# Altium schematic symbol library THU_VIEN_1.SchLib: 78 symbols
Pins are listed as number, name and electrical type; pins without a type are passive.

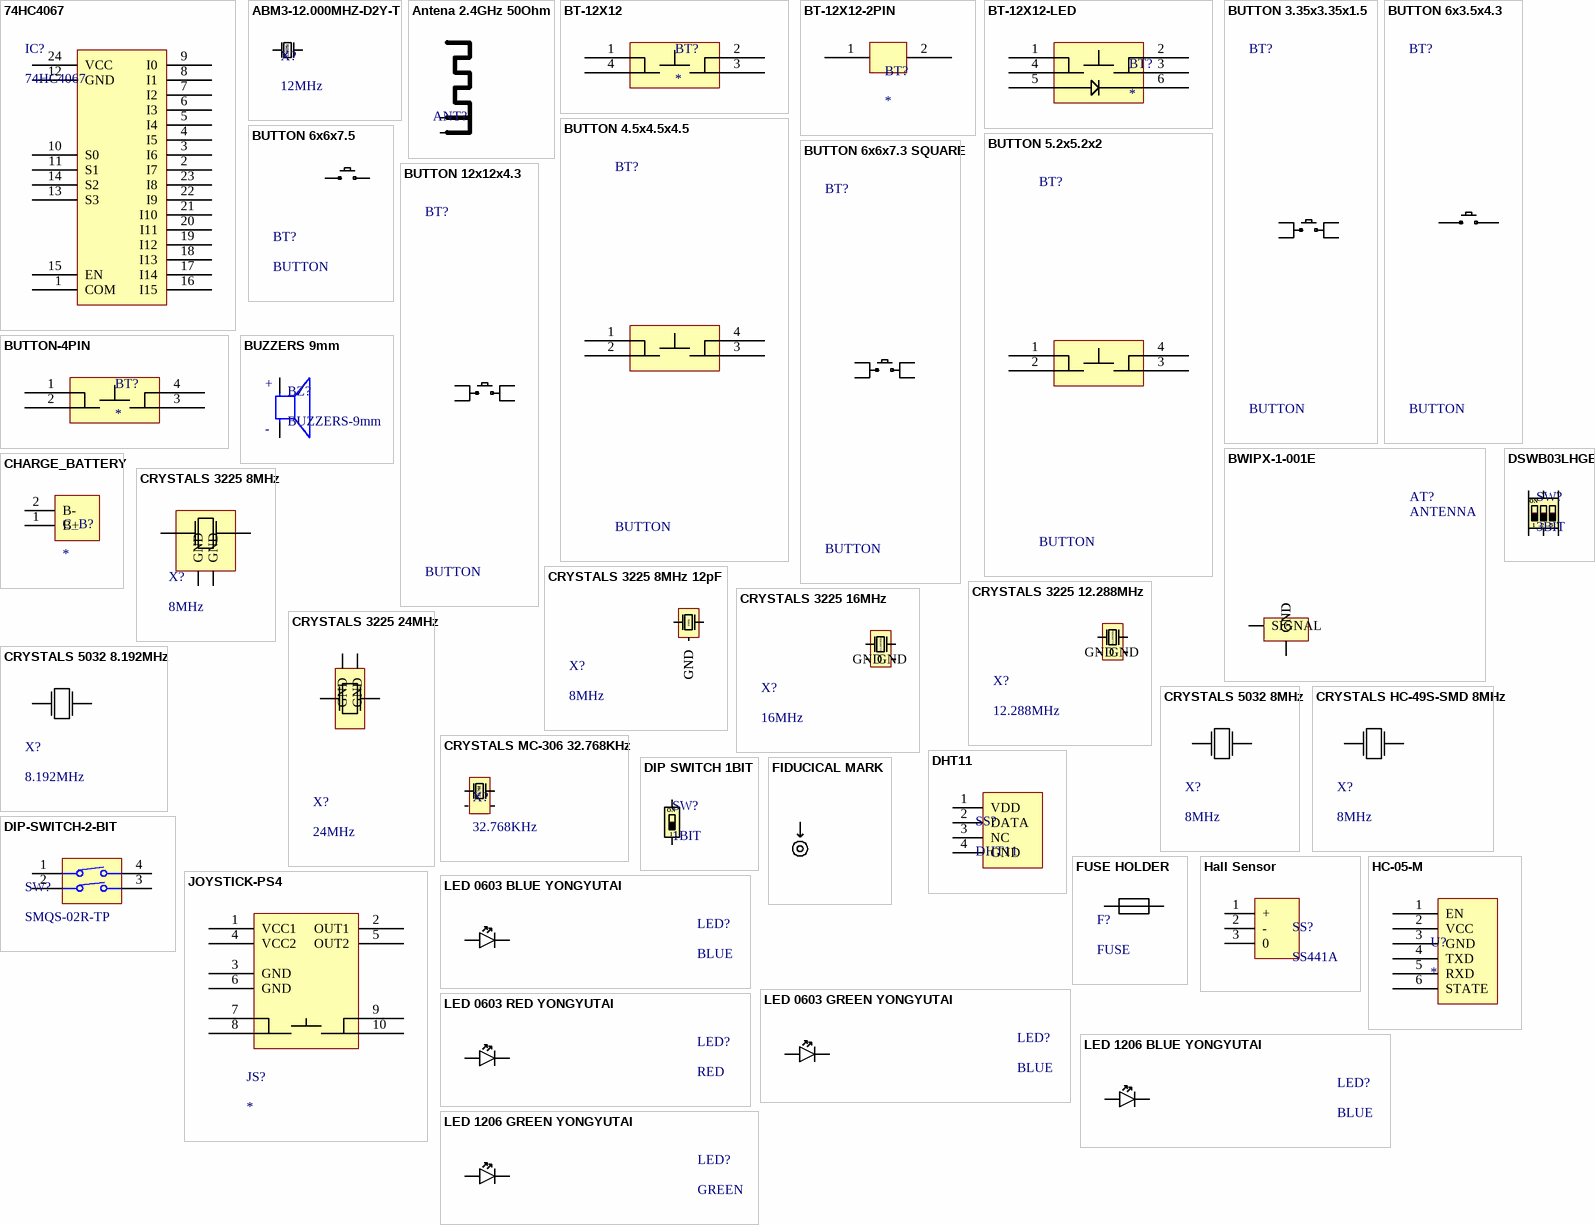
[diagram p0: symbols 74HC4067 to LED 1206 GREEN YONGYUTAI]

## 74HC4067
designator IC?
SSOP-24-208mil Analog Switches / Multiplexers ROHS; Manufacturer: Nexperia; Mfr.Part #: 74HC4067DB,118; So_Chan_Dan: 24; So_Chan_Cam: 0; Package: SSOP-24-208mil; Name: 74HC4067
footprint SSOP-24-208mil
pins: 1 COM, 2 I7, 3 I6, 4 I5, 5 I4, 6 I3, 7 I2, 8 I1, 9 I0, 10 S0, 11 S1, 12 GND, 13 S3, 14 S2, 15 EN, 16 I15, 17 I14, 18 I13, 19 I12, 20 I11, 21 I10, 22 I9, 23 I8, 24 VCC

## ABM3-12.000MHZ-D2Y-T
designator X?, comment 12MHz
SMD5032 Crystals ROHS; Manufacturer: Abracon LLC; Mfr.Part #: ABM3-12.000MHZ-D2Y-T; Package: SMD5032; LCSC Part #: C148313
footprint SMD3215
pins: 1, 2

## Antena 2.4GHz 50Ohm
designator ANT?  (value not drawn)
footprint ANTENNA 2.4GHz
pins: 1 GND, 2

## BT-12X12
designator BT?
footprint BUTTON-12X12
pins: 1 11, 2 13, 3 14, 4 12

## BT-12X12-2PIN
designator BT?
footprint BUTTON-12X12-2PIN
pins: 1 14, 2 15

## BT-12X12-LED
designator BT?
footprint BUTTON-12x12-LED
pins: 1 11, 2 13, 3 14, 4 12, 5, 6

## BUTTON 3.35x3.35x1.5
designator BT?, comment BUTTON
3.35mm 1.5mm 50mA Round Button Brick nogging 3.35mm 180gf 12V SMD Tactile Switches ROHS; Manufacturer: BZCN; Mfr.Part #: TSA007A1518B03; Name: BUTTON 3.35x3.35x1.5; So_Chan_Dan: 4; So_Chan_Cam: 0; Package: SMD
footprint BUTTON-3X3X1.5-4PIN
pins: 1, 2, 3, 4

## BUTTON 4.5x4.5x4.5
designator BT?, comment BUTTON
4.5mm 4.5mm Round Button 50mA Brick nogging 4.5mm SPST 12V SMD,4.5x4.5mm Tactile Switches ROHS; Manufacturer: XUNPU; Mfr.Part #: TS-1009S-04526; Name: BUTTON 4.5x4.5x4.5; So_Chan_Dan: 4; So_Chan_Cam: 0; Package: SMD,4.5x4.5mm
footprint SMD,4.5x4.5mm
pins: 1 11, 2 12, 3 14, 4 13

## BUTTON 5.2x5.2x2
designator BT?, comment BUTTON
5.2mm 2mm 50mA Round Button Brick nogging 5.2mm 12V SMD Tactile Switches ROHS; Manufacturer: BZCN; Mfr.Part #: TSC005A2026B; Name: BUTTON 5.2x5.2x2; So_Chan_Dan: 4; So_Chan_Cam: 0; Package: SMD
pins: 1 11, 2 12, 3 14, 4 13

## BUTTON 6x3.5x4.3
designator BT?, comment BUTTON
None Without 50mA 6mm 100MΩ 50,000 times 12V 260gf 3.5mm 4.3mm Round Button Standing paste SPST SMD Tactile Switches ROHS; Manufacturer: HCTL; Mfr.Part #: TC-3602-4.3-260G; Name: BUTTON 6x3.5x4.3; So_Chan_Dan: 2; So_Chan_Cam: 0; Package: BUTTON-6X3.5x4.3-2PIN
footprint BUTTON-6X3.5x4.3-2PIN
pins: 1, 2

## BUTTON 6x6x7.3 SQUARE
designator BT?, comment BUTTON
6mm 7.3mm Rectangle button 50mA Standing paste 6mm SPST 12V SMD,6x6mm Tactile Switches ROHS; Manufacturer: XUNPU; Mfr.Part #: TS-1002ST-26C; Name: BUTTON 6x6x7.3 SQUARE; So_Chan_Dan: 4; So_Chan_Cam: 0; Package: SMD,6x6mm
footprint BUTTON-6x6x7.3-4PIN-SQUARE
pins: 1, 2, 3, 4

## BUTTON 6x6x7.5
designator BT?, comment BUTTON
带支架 6mm 7.5mm 50mA Lying 6mm 100MΩ 100,000 Times 250gf 12V Plugin Tactile Switches ROHS; Manufacturer: Korean Hroparts Elec; Mfr.Part #: K2-1102AQ-H4CW-01; So_Chan_Cam: 4; So_Chan_Dan: 0; Package: Plugin; Name: Tactile Switches
footprint Plugin, Button
pins: 1, 2

## BUTTON 12x12x4.3
designator BT?, comment BUTTON
12mm 4.3mm 50mA Round Button Standing paste 12mm SPST 100MΩ 250gf 12V SMD,12x12mm Tactile Switches ROHS; Manufacturer: Hanbo Electronic; Mfr.Part #: TS-1103S; Name: BUTTON 12x12x4.3; So_Chan_Dan: 0; So_Chan_Cam: 4; Package: SMD,12x12mm
footprint SMD,12x12mm
pins: 1 11, 2 12, 3 14, 4 13

## BUTTON-4PIN
designator BT?
footprint BUTTON-3X3X1.5-4PIN
footprint BUTTON-6.2X6.2 (SMD)
footprint BUTTON-12X12
pins: 1 11, 2 12, 3 14, 4 13

## BUZZERS 9mm
designator BZ?, comment BUZZERS-9mm
85dB Externally Driven Magnetic 2.7kHz Plugin,D=9mm Buzzers ROHS; Manufacturer: Jiangsu Huaneng Elec; Mfr.Part #: QMB-09B-03; Name: BUZZER-9mm; So_Chan_Cam: 2; So_Chan_Dan: 0; Package: Plugin,D=9mm
footprint Plugin,D=9mm
pins: 1, 2
text: +; -

## BWIPX-1-001E
designator AT?, comment ANTENNA
1 Inner pin IPEX Board-End 6GHz 50Ω SMD Coaxial Connectors (RF) ROHS; Manufacturer: BAT WIRELESS; Mfr.Part #: BWIPX-1-001E; So_Chan_Dan: 4; So_Chan_Cam: 0; Package: SMD; Name: BWIPX-1-001E
footprint IPEX-SMD
pins: 1 SIGNAL, 2 GND, 3 GND, 4 GND

## CHARGE_BATTERY
designator C_B?
footprint CHARGE_BATTERY
pins: 1 B+, 2 B-

## CRYSTALS 3225 8MHz
designator X?, comment 8MHz
8MHz 20pF ±10ppm ±30ppm SMD3225-4P Crystals ROHS; Manufacturer: Huiyuan crystal; Mfr.Part #: HY8MSMD3225OB1R30; Name: CRYSTALS 3225 8MHz; So_Chan_Dan: 4; So_Chan_Cam: 0; Package: SMD3225-4P
footprint SMD3225-4P
pins: 1, 2 GND, 3, 4 GND

## CRYSTALS 3225 8MHz 12pF
designator X?, comment 8MHz
8MHz Surface Mount Crystal 12pF ±10ppm ±30ppm SMD3225-4P Crystals ROHS; Manufacturer: huaxindianzi; Mfr.Part #: 3X008000BP; Name: CRYSTALS 3225 8MHz 12pF; So_Chan_Dan: 4; So_Chan_Cam: 0; Package: SMD3225-4P
footprint SMD3225-4P
pins: 1, 2 GND, 3, 4 GND

## CRYSTALS 3225 12.288MHz
designator X?, comment 12.288MHz
12.288MHz Surface Mount Crystal 12pF ±10ppm ±20ppm SMD3225-4P Crystals ROHS; Manufacturer: Yajingxin; Mfr.Part #: TXM12.288M0004322FBCDO00T; Name: CRYSTALS 3225 12.288MHz; So_Chan_Dan: 4; So_Chan_Cam: 0; Package: SMD3225-4P
footprint SMD3225-4P
pins: 1, 2 GND, 3, 4 GND

## CRYSTALS 3225 16MHz
designator X?, comment 16MHz
16MHz 20pF ±10ppm SMD3225-4P Crystals ROHS; Manufacturer: Huiyuan crystal; Mfr.Part #: HY16MSMD3225OB1R30; Name: CRYSTALS 3225 16MHz; So_Chan_Dan: 4; So_Chan_Cam: 0; Package: SMD3225-4P
footprint SMD3225-4P
pins: 1, 2 GND, 3, 4 GND
text: 12.288MHz

## CRYSTALS 3225 24MHz
designator X?, comment 24MHz
24MHz Surface Mount Crystal 20pF ±20ppm ±20ppm SMD3225-4P Crystals ROHS; Manufacturer: TAITIEN Elec; Mfr.Part #: XXHCCLNANF-24MHZ; Name: CRYSTALS 3225 24MHz; So_Chan_Dan: 4; So_Chan_Cam: 0; Package: SMD3225-4P
footprint SMD3225-4P
pins: 1, 2 GND, 3, 4 GND

## CRYSTALS 5032 8.192MHz
designator X?, comment 8.192MHz
12pF 8.192MHz ±50ppm ±30ppm Surface Mount Crystal SMD5032 Crystals ROHS; Manufacturer: HCI; Mfr.Part #: XC53G2-8.192-F12JGDTL; Name: CRYSTALS 5032 8.192MHz; So_Chan_Dan: 2; So_Chan_Cam: 0; Package: SMD5032
footprint SMD5032
pins: 1, 2

## CRYSTALS 5032 8MHz
designator X?, comment 8MHz
8MHz 20pF ±10ppm SMD5032 Crystals ROHS; Manufacturer: SST; Mfr.Part #: S50328M20PF20PPMB; Name: CRYSTALS 5032 8MHz; So_Chan_Dan: 2; So_Chan_Cam: 0; Package: SMD5032
footprint SMD5032
pins: 1, 2

## CRYSTALS HC-49S-SMD 8MHz
designator X?, comment 8MHz
8MHz 20pF ±20ppm ±50ppm HC-49S-SMD Crystals ROHS; Manufacturer: Huiyuan crystal; Mfr.Part #: HY8M49SSMDOB2R20; Name: CRYSTALS HC-49S-SMD 8MHz; So_Chan_Dan: 2; So_Chan_Cam: 0; Package: HC-49S-SMD
footprint HC-49S-SMD
pins: 1, 2

## CRYSTALS MC-306 32.768KHz
designator X?, comment 32.768KHz
32.768kHz Surface Mount Crystal 12.5pF ±20ppm MC-306 Crystals ROHS; Manufacturer: Seiko Epson; Mfr.Part #: Q13MC30610003; Name: CRYSTALS MC-306 32.768KHz; So_Chan_Dan: 4; So_Chan_Cam: 0; Package: MC-306
footprint MC-306
pins: 1, 2, 3, 4
text: 32.768

## DHT11
designator SS?
SIP-4 Temperature and Humidity Sensor ROHS; MF: Panasonic Industrial Automation Sales; MP: DHT11; Package: None; SnapEDA_Link: https://www.snapeda.com/parts/DHT11/Panasonic/view-part/6618018/?ref=snap; Check_prices: https://www.snapeda.com/parts/DHT11/Panasonic/view-part/6618018/?ref=eda; Availability: In Stock; Value: *; Price: None; Purchase-URL: https://pricing.snapeda.com/search/part/DHT11/?ref=eda
footprint SIP-4
pins: 1 VDD, 2 DATA, 3 NC, 4 GND

## DIP SWITCH 1BIT
designator SW?, comment 1BIT
1 Digit SPST Red Flat Toggle, Raised Style Plugin,9.9x4mm DIP Switches ROHS; Manufacturer: DongGuan KINGTEK Industrial Co.,LTD; Mfr.Part #: DSWB01LHGET; Name: DIP SWITCH 1BIT; So_Chan_Dan: 0; So_Chan_Cam: 2; Package: Plugin
footprint DIP SWITCH 1BIT
pins: 1, 2
text: ON

## DIP-SWITCH-2-BIT
designator SW?, comment SMQS-02R-TP
2Bit Red 5千次 Slide (Standard),凸起式 - DIP Switches ROHS; MF: Wurth Electronics; MP: 418117270902; SnapEDA_Link: https://www.snapeda.com/parts/418117270902/Wurth+Electronics+Inc./view-part/?ref=snap; Package: None; Value: *; Check_prices: https://www.snapeda.com/parts/418117270902/Wurth+Electronics+Inc./view-part/?ref=eda
footprint DIP-SWITCH-2-BIT
pins: 1, 2, 3, 4

## DSWB03LHGET
designator SW?, comment 3BIT
3 SPST Red Slide, Rocked Through Hole DIP Switches ROHS; Manufacturer: YE; Mfr.Part #: DSWB03LHGET; Package: Through Hole; LCSC Part #: C99420
footprint DIP SWITCH 3BIT
pins: 1, 2, 3, 4, 5, 6
text: ON

## FIDUCICAL MARK
designator Mark?
Fiducial mark
footprint Fiducial mark

## FUSE HOLDER
designator F?, comment FUSE
SMD,5.0x9.7mm Fuse Holders ROHS; Manufacturer: Littelfuse; Mfr.Part #: 01550900M; So_Chan_Dan: 2; So_Chan_Cam: 0; Package: SMD,5.0x9.7mm; Name: FUSE HOLDER
footprint SMD,5.0x9.7mm
pins: 1, 2

## Hall Sensor
designator SS?, comment SS441A
115Gs 20Gs TO-92S Hall Sensor ROHS
footprint TO-92S
pins: 1 +, 2 -, 3 0

## HC-05-M
designator U?
pins: 1 EN, 2 VCC, 3 GND, 4 TXD, 5 RXD, 6 STATE

## JOYSTICK-PS4
designator JS?
footprint JOYTICK-PS4
footprint JOYTICK-PS4
pins: 1 VCC1, 2 OUT1, 3 GND, 4 VCC2, 5 OUT2, 6 GND, 7 BT1, 8 BT2, 9 BT3, 10 BT4

## LED 0603 BLUE YONGYUTAI
designator LED?, comment BLUE
30mA -40℃~+85℃ 460nm~475nm Blue 120° 2.6V~3.2V 0603 Light Emitting Diodes (LED) ROHS; Manufacturer: YONGYUTAI; Mfr.Part #: YLED0603B; Name: LED 0603 BLUE; So_Chan_Dan: 2; So_Chan_Cam: 0; Package: 0603
footprint LED-0603
pins: 1 A, 2 K

## LED 0603 GREEN YONGYUTAI
designator LED?, comment BLUE
Emerald 2.7V~3.2V 25mA -40℃~+85℃ 510nm~531nm 0603 LED Indication - Discrete ROHS; Manufacturer: YONGYUTAI; Mfr.Part #: YLED0603G; Name: LED 0603 GREEN YONGYUTAI; So_Chan_Dan: 2; So_Chan_Cam: 0; Package: 0603
footprint LED-0603
pins: 1 A, 2 K

## LED 0603 RED YONGYUTAI
designator LED?, comment RED
Red 25mA 620nm~625nm 1.8V~2.4V -40℃~+85℃ 0603 Light Emitting Diodes (LED) ROHS; Manufacturer: YONGYUTAI; Mfr.Part #: YLED0603R; So_Chan_Cam: 0; So_Chan_Dan: 2; Name: LED 0603 RED YONGYUTAI; Package: 0603
footprint LED-0603
pins: 1 A, 2 K

## LED 1206 BLUE YONGYUTAI
designator LED?, comment BLUE
1206 LED Indication - Discrete ROHS; Manufacturer: YONGYUTAI; Mfr.Part #: YLED1206B; So_Chan_Cam: 0; So_Chan_Dan: 2; Name: LED 1206 BLUE YONGYUTAI; Package: 1206
footprint LED-BLUE-1206
pins: 1 A, 2 K

## LED 1206 GREEN YONGYUTAI
designator LED?, comment GREEN
1206 LED Indication - Discrete ROHS; Manufacturer: YONGYUTAI; Mfr.Part #: YLED1206G; So_Chan_Cam: 0; So_Chan_Dan: 2; Package: 1206; Name: YLED1206G
footprint LED-GREEN-1206
pins: 1 A, 2 K

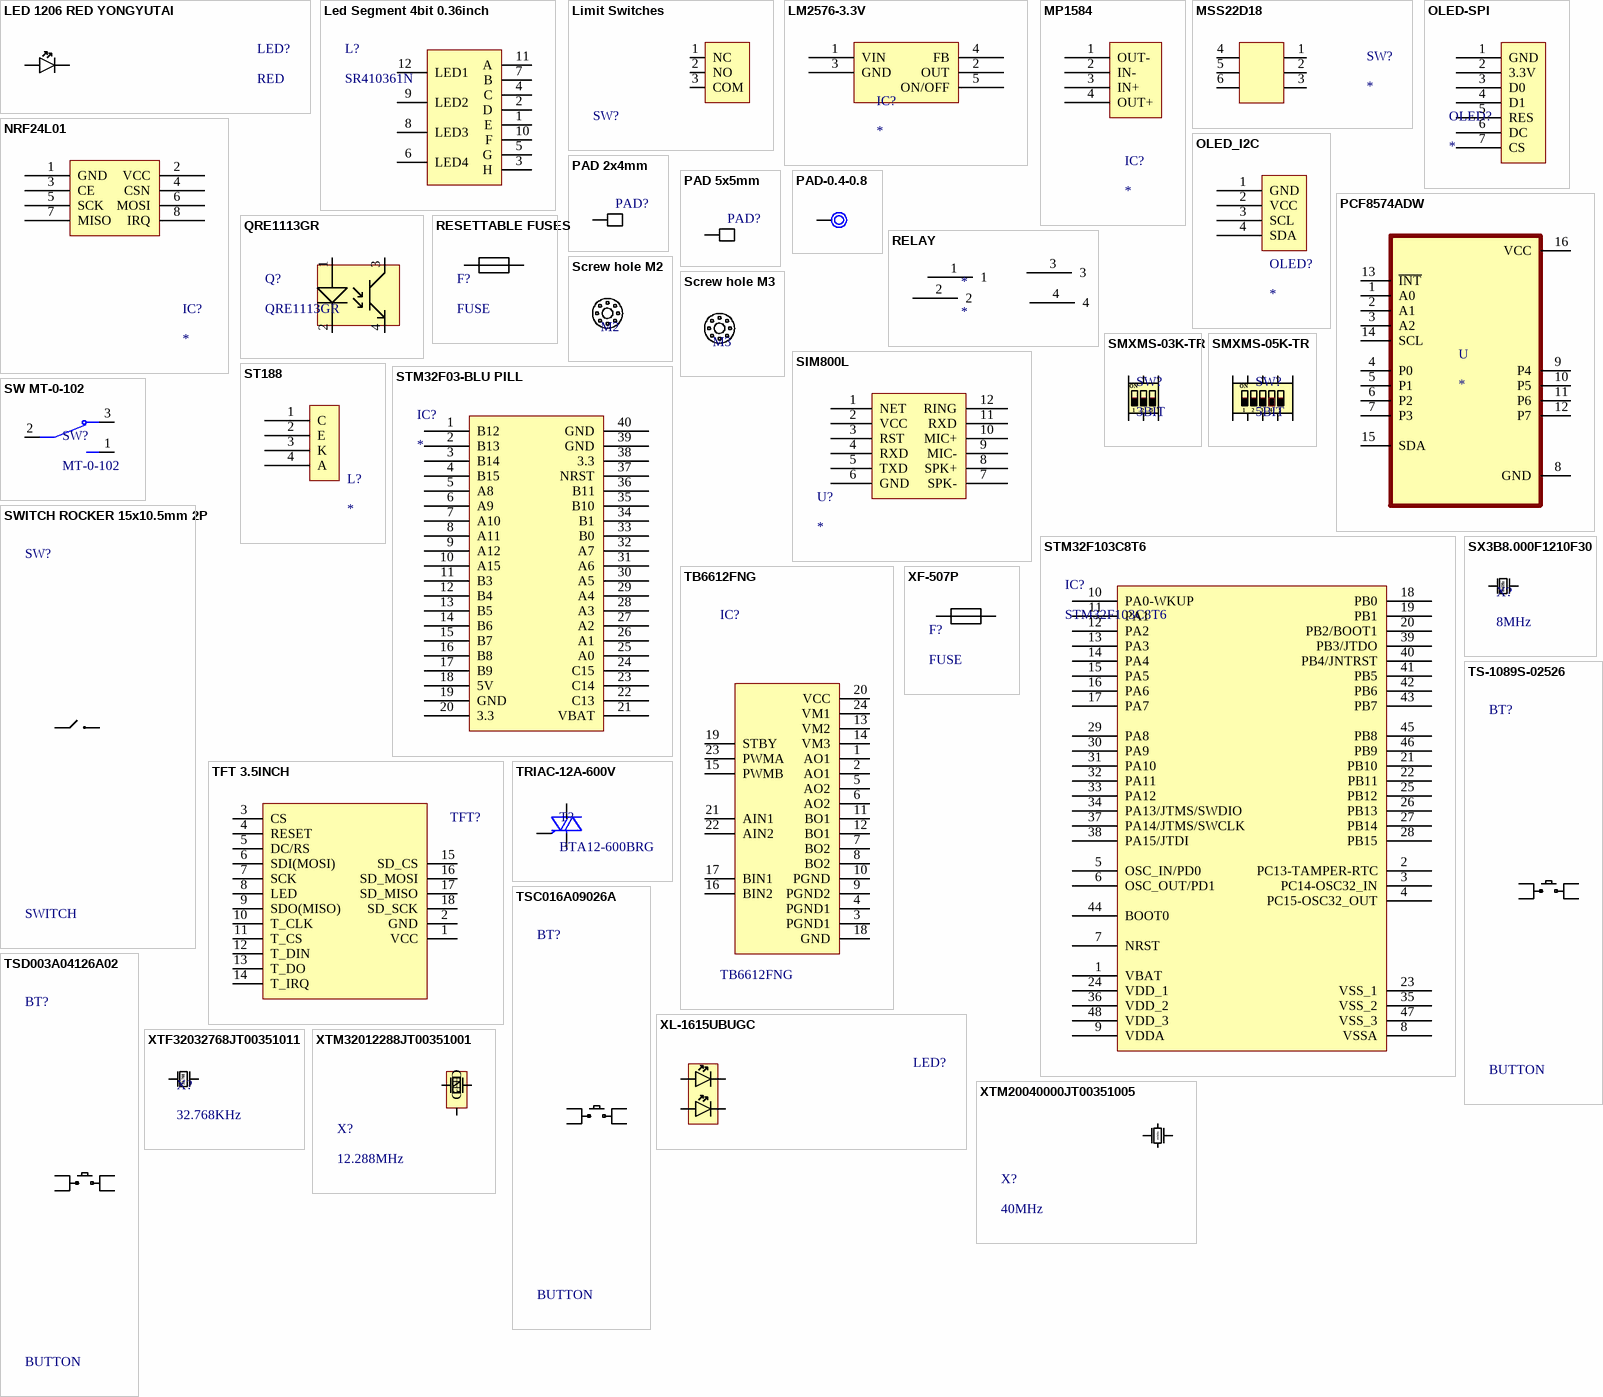
[diagram p1: symbols LED 1206 RED YONGYUTAI to XTM32012288JT00351001]

## LED 1206 RED YONGYUTAI
designator LED?, comment RED
1206 LED Indication - Discrete ROHS; Manufacturer: YONGYUTAI; Mfr.Part #: YLED1206R; So_Chan_Cam: 0; So_Chan_Dan: 2; Name: LED 1206 RED YONGYUTAI; Package: 1206
footprint LED-RED-1206
pins: 1 A, 2 K

## Led Segment 4bit 0.36inch
designator L?, comment SR410361N
Red 4Bit Common anode 0.36 Plugin Led Segment Display ROHS
footprint LED_7_THANH_4_SO_0.36_INCH
pins: 1 E, 2 D, 3 H, 4 C, 5 G, 6 LED4, 7 B, 8 LED3, 9 LED2, 10 F, 11 A, 12 LED1

## Limit Switches
designator SW?  (value not drawn)
1A 30V Single Pole Double Throw (SPDT) Micro switch 1,000,000 Times Plugin Limit Switches ROHS; Manufacturer: XKB Connection; Mfr.Part #: DM1-150D-1; So_Chan_Dan: 0; So_Chan_Cam: 3; Package: Plugin; Name: Limit Switches
footprint Plugin, P=5.08
pins: 1 NC, 2 NO, 3 COM

## LM2576-3.3V
designator IC?
footprint TO220-5PIN
pins: 1 VIN, 2 OUT, 3 GND, 4 FB, 5 ON/OFF

## MP1584
designator IC?
footprint MP1584
pins: 1 OUT-, 2 IN-, 3 IN+, 4 OUT+

## MSS22D18
designator SW?
SMD
footprint MSS22D18 SMD
pins: 1 77, 2 78, 3 79, 4, 5 81, 6 82

## NRF24L01
designator IC?
footprint NRF24L01
pins: 1 GND, 2 VCC, 3 CE, 4 CSN, 5 SCK, 6 MOSI, 7 MISO, 8 IRQ

## OLED-SPI
designator OLED?
footprint OLED-SPI-2
pins: 1 GND, 2 3.3V, 3 D0, 4 D1, 5 RES, 6 DC, 7 CS

## OLED_I2C
designator OLED?
0.96
footprint OLED_I2C_0.96
pins: 1 GND, 2 VCC, 3 SCL, 4 SDA

## PAD 2x4mm
designator PAD?  (value not drawn)
footprint PAD, 2x4mm
pins: 1

## PAD 5x5mm
designator PAD?, comment PAD 2x4mm  (value not drawn)
footprint PAD, 2x4mm
pins: 1

## PAD-0.4-0.8
designator ?
footprint PAD,0.4,0.8
pins: 0

## PCF8574ADW
designator U
Remote 8-Bit I/O Expander for I2C-Bus 16-SOIC -40 to 85; MF: Texas Instruments; MP: PCF8574ADW; Mouser-Purchase-URL: https://snapeda.com/shop?store=Mouser&id=554599; SnapEDA_Link: https://www.snapeda.com/parts/PCF8574ADW/Texas%20Instruments/view-part/554599/?ref=snap; DigiKey-Purchase-URL: https://snapeda.com/shop?store=DigiKey&id=554599; Package: SOIC-16 Texas Instruments; Price: None; Availability: Warning; Texas_Instruments-Purchase-URL: https://snapeda.com/shop?store=Texas+Instruments&id=554599; Value: *
footprint SO16W
pins: 1 A0, 2 A1, 3 A2, 4 P0, 5 P1, 6 P2, 7 P3, 8 GND (power), 9 P4, 10 P5, 11 P6, 12 P7, 13 ~{INT}, 14 SCL, 15 SDA, 16 VCC (power)

## QRE1113GR
designator Q?
20mA 1mm SMD-4P Reflective Optical Interrupters ROHS; Manufacturer: onsemi; So_Chan_Dan: 4; So_Chan_Cam: 0; Mfr.Part #: QRE1113GR; Package: SMD-4P; Name: QRE1113GR
footprint SMD-4P
pins: 1, 2, 3, 4

## RELAY
designator *
footprint Plugin,10.2x18.4mm
pins: 1, 2, 3, 4

## RESETTABLE FUSES
designator F?, comment FUSE
60V 500mA 40A 1A Plugin Resettable Fuses ROHS; Manufacturer: RUILON(Shenzhen Ruilongyuan Elec); Mfr.Part #: RL60-050; So_Chan_Dan: 0; So_Chan_Cam: 2; Package: Plugin; Name: RESETTABLE FUSES
footprint Plugin
pins: 1, 2

## Screw hole M2
designator S?, comment M2
footprint Screw hole M2

## Screw hole M3
designator ?, comment M3
footprint Screw hole M3

## SIM800L
designator U?
footprint SIM800L
pins: 1 NET "50", 2 VCC, 3 RST, 4 RXD, 5 TXD, 6 GND, 7 SPK-, 8 SPK+, 9 MIC-, 10 MIC+, 11 RXD, 12 RING "50"

## SMXMS-03K-TR
designator SW?, comment 3BIT
3 24V Black 25mA SMD-6P,5.4x5.4mm DIP Switches ROHS; Manufacturer: SM Switch; Mfr.Part #: SMXMS-03K-TR; Package: SMD-6P,5.4x5.4mm; LCSC Part #: C19272175
footprint SMD-6P,5.4x5.4mm
pins: 1, 2, 3, 4, 5, 6
text: ON

## SMXMS-05K-TR
designator SW?, comment 5BIT
5 Digits 24V Black 25mA SMD-10P,7.9x5.4mm DIP Switches ROHS; Manufacturer: SM Switch; Mfr.Part #: SMXMS-05K-TR; So_Chan_Dan: 5; So_Chan_Cam: 0; Package: SMD-10P,7.9x5.4mm; Name: SMXMS-05K-TR
footprint SMD-10P,7.9x5.4mm
pins: 1, 2, 3, 4, 5, 6, 7, 8, 9, 10
text: ON

## ST188
designator L?
footprint ST188
pins: 1 C, 2 E, 3 K, 4 A

## STM32F03-BLU PILL
designator IC?
footprint STM32F103C8T6 - Blue Pill
pins: 1 B12, 2 B13, 3 B14, 4 B15, 5 A8, 6 A9, 7 A10, 8 A11, 9 A12, 10 A15, 11 B3, 12 B4, 13 B5, 14 B6, 15 B7, 16 B8, 17 B9, 18 5V, 19 GND, 20 3.3, 21 VBAT, 22 C13, 23 C14, 24 C15, 25 A0, 26 A1, 27 A2, 28 A3, 29 A4, 30 A5, 31 A6, 32 A7, 33 B0, 34 B1, 35 B10, 36 B11, 37 NRST, 38 3.3, 39 GND, 40 GND

## STM32F103C8T6
designator IC?
64KB 2V~3.6V ARM-M3 20KB 72MHz FLASH 37 LQFP-48(7x7) Microcontroller Units (MCUs/MPUs/SOCs) ROHS; Manufacturer: STMicroelectronics; So_Chan_Dan: 48; So_Chan_Cam: 0; Mfr.Part #: STM32F103C8T6; Package: LQFP-48(7x7); Name: STM32F103C8T6
footprint LQFP-48(7x7)
pins: 1 VBAT, 2 PC13-TAMPER-RTC, 3 PC14-OSC32_IN, 4 PC15-OSC32_OUT, 5 OSC_IN/PD0, 6 OSC_OUT/PD1, 7 NRST, 8 VSSA, 9 VDDA, 10 PA0-WKUP, 11 PA1, 12 PA2, 13 PA3, 14 PA4, 15 PA5, 16 PA6, 17 PA7, 18 PB0, 19 PB1, 20 PB2/BOOT1, 21 PB10, 22 PB11, 23 VSS_1, 24 VDD_1, 25 PB12, 26 PB13, 27 PB14, 28 PB15, 29 PA8, 30 PA9, 31 PA10, 32 PA11, 33 PA12, 34 PA13/JTMS/SWDIO, 35 VSS_2, 36 VDD_2, 37 PA14/JTMS/SWCLK, 38 PA15/JTDI, 39 PB3/JTDO, 40 PB4/JNTRST, 41 PB5, 42 PB6, 43 PB7, 44 BOOT0, 45 PB8, 46 PB9, 47 VSS_3, 48 VDD_3

## SW MT-0-102
designator SW?, comment MT-0-102
125V SPDT Straight 5A Plugin Toggle Switches ROHS; Manufacturer: YUEN FUNG; Mfr.Part #: MT-0-102-A101-M200-RS; Name: SW MT-0-102; So_Chan_Cam: 3; So_Chan_Dan: 0; Package: Plugin
footprint SW, Plugin,3P
pins: 1, 2, 3

## SWITCH ROCKER 15x10.5mm 2P
designator SW?, comment SWITCH
SPST 10,000 times 3A Solder 250V None Plugin Rocker Switches ROHS; Manufacturer: HCTL; Mfr.Part #: RS601HL-1010011BB; Name: SWITCH ROCKER 15x10.5mm 2P; So_Chan_Dan: 2; So_Chan_Cam: 0; Package: Plugin
footprint Plugin,Rocker Switches
pins: 1, 2

## SX3B8.000F1210F30
designator X?, comment 8MHz
8MHz Crystal Oscillator 12pF ±10ppm ±30ppm SMD3225-4P Crystals ROHS; Manufacturer: Shenzhen SCTF Elec; Mfr.Part #: SX3B8.000F1210F30; Package: SMD3225-4P; LCSC Part #: C2901645
footprint SMD3225-4P
pins: 1, 2

## TB6612FNG
designator IC?
1A Brush DC Motor 2.7V~5.5V Parallel SSOP-24 Motor Driver ICs ROHS; Manufacturer: TOSHIBA; Mfr.Part #: TB6612FNG,C,8,EL; So_Chan_Dan: 24; So_Chan_Cam: 0; Package: SSOP-24; Name: TB6612FNG
footprint SSOP-24
pins: 1 AO1, 2 AO1, 3 PGND1, 4 PGND1, 5 AO2, 6 AO2, 7 BO2, 8 BO2, 9 PGND2, 10 PGND, 11 BO1, 12 BO1, 13 VM2 (power), 14 VM3 (power), 15 PWMB, 16 BIN2, 17 BIN1, 18 GND, 19 STBY, 20 VCC (power), 21 AIN1, 22 AIN2, 23 PWMA, 24 VM1 (power)

## TFT 3.5INCH
designator TFT?, comment RED  (value not drawn)
TFT 3.5INCH; So_Chan_Cam: 18; So_Chan_Dan: 0; Manufacturer: TFT 3.5INCH; Mfr.Part #: TFT 3.5INCH; Package: TFT 3.5INCH; Name: TFT 3.5INCH
footprint TFT 3.5INCH 1
pins: 1 VCC, 2 GND, 3 CS, 4 RESET, 5 DC/RS, 6 SDI(MOSI), 7 SCK, 8 LED, 9 SDO(MISO), 10 T_CLK, 11 T_CS, 12 T_DIN, 13 T_DO, 14 T_IRQ, 15 SD_CS, 16 SD_MOSI, 17 SD_MISO, 18 SD_SCK

## TRIAC-12A-600V
designator T?, comment BTA12-600BRG
50mA 50mA 600V TO-220 TRIACs ROHS; MP: BT136-600E,127; MF: WeEn Semiconductors; SnapEDA_Link: https://www.snapeda.com/parts/BT136-600E,127/WeEn+Semiconductors/view-part/?ref=snap; Purchase-URL: https://pricing.snapeda.com/search/part/BT136-600E,127/?ref=eda; Package: TO-220 WeEn Semiconductors; Digi-Key_Part_Number: 1740-1019-ND; Check_prices: https://www.snapeda.com/parts/BT136-600E,127/WeEn+Semiconductors/view-part/?ref=eda; Value: *
footprint TO-220
pins: 1 T1, 2 T2, 3 G

## TS-1089S-02526
designator BT?, comment BUTTON
3.25mm 2.5mm Oval button 50mA Standing paste 4.2mm SPST 12V SMD,3.3x4.2mm Tactile Switches ROHS; Manufacturer: XUNPU; Mfr.Part #: TS-1089S-02526; Package: SMD,3.3x4.2mm; LCSC Part #: C455282
footprint SMD,3.3x4.2mm
pins: 1, 2, 3, 4

## TSC016A09026A
designator BT?, comment BUTTON
4.5mm 9mm 50mA Round Button Straight 4.5mm 2.6N 12V Plugin Tactile Switches ROHS; Manufacturer: BZCN; Mfr.Part #: TSC016A09026A; Package: Plugin
footprint Plugin, Button 4.5x4.5mm
pins: 1, 2, 3, 4

## TSD003A04126A02
designator BT?, comment BUTTON
6mm 4.1mm 50mA Round Button Vertical welding 6mm 2.6N 12V SMD Tactile Switches ROHS; Manufacturer: BZCN; Mfr.Part #: TSD003A04126A02; Package: SMD
footprint BUTTON-6x6x4.1-4PIN
pins: 1, 2, 3, 4

## XF-507P
designator F?, comment FUSE
Fuseholders ROHS; Manufacturer: XFCN; Mfr.Part #: XF-507P; Package: Plugin
footprint XF-507P
pins: 1, 2

## XL-1615UBUGC
designator LED?, comment LED  (value not drawn)
20mA Colorless Transparent Lens -20℃~+85℃ Positive Stick Common Anode Emerald,Blue 70mW 3.4V 0606 LED Indication - Discrete ROHS; Manufacturer: XINGLIGHT; Mfr.Part #: XL-1615UBUGC; Package: 0606; LCSC Part #: C965835
footprint 0606
pins: 1 B, 2 G, 3 A2, 4 A1

## XTF32032768JT00351011
designator X?, comment 32.768KHz
32.768kHz Surface Mount Crystal 12pF ±10ppm SMD3215 Crystals ROHS; Manufacturer: TOGNJING; Mfr.Part #: XTF32032768JT00351011; So_Chan_Dan: 2; So_Chan_Cam: 0; Package: SMD3215; Name: XTF32032768JT00351011
footprint SMD3215
pins: 1, 2
text: 32.768

## XTM20040000JT00351005
designator X?, comment 40MHz
40MHz Surface Mount Crystal 12pF ±10ppm ±20ppm SMD2016-4P Crystals ROHS; Manufacturer: TOGNJING; Mfr.Part #: XTM20040000JT00351005; So_Chan_Dan: 4; So_Chan_Cam: 0; Package: SMD2016-4P; Name: XTM20040000JT00351005
footprint SMD2016-4P
pins: 1, 2 GND, 3, 4 GND

## XTM32012288JT00351001
designator X?, comment 12.288MHz
12.288MHz Crystal Oscillator 12pF ±10ppm ±10ppm SMD3225-4P Crystals ROHS; Manufacturer: TOGNJING; Mfr.Part #: XTM32012288JT00351001; Package: SMD3225-4P; LCSC Part #: C41383238
footprint SMD3225-4P
pins: 1, 2 GND, 3, 4 GND